# EAGLE library part BMI085 (library BMI085)
High-performance 6-axis IMU designed for Augmented/Virtual Reality applications Check availability <https://pricing.snapeda.com/parts/BMI085/Bosch%20Sensortec/view-part?ref=eda>
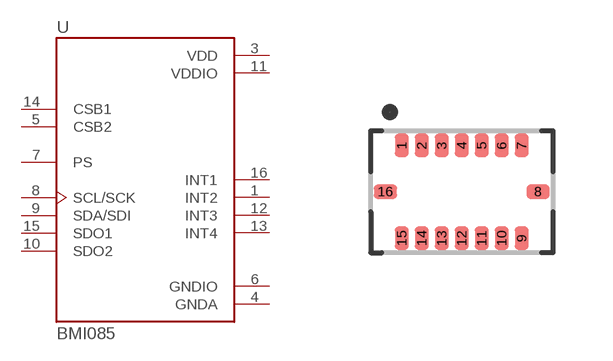
[diagram p0: symbol with the pads of PQFN50P450X300X100-16N; footprint PQFN50P450X300X100-16N]

Designator prefix U

## BMI085 (Availability: In Stock; Description: Accelerometer, Gyroscope, 6 Axis Sensor I²C, SPI Output; MF: Bosch Sensortec; MP: BMI085; Package: VFLGA-16 Bosch Tools; Price: None; Purchase-URL: https://pricing.snapeda.com/search/part/BMI085/?ref=eda)  [PQFN50P450X300X100-16N]
1  INT2
3  VDD  pwr
4  GNDA  pwr
5  CSB2  in
6  GNDIO  pwr
7  PS  in
8  SCL/SCK  in
9  SDA/SDI
10  SDO2  out
11  VDDIO  pwr
12  INT3
13  INT4
14  CSB1  in
15  SDO1  out
16  INT1

## Footprint PQFN50P450X300X100-16N (pad centres in mm)
smd 0.35 x 0.58: 1 -1.5,1.16; 2 -1,1.16; 3 -0.5,1.16; 4 0,1.16; 5 0.5,1.16; 6 1,1.16; 7 1.5,1.16; 9 1.5,-1.16; 10 1,-1.16; 11 0.5,-1.16; 12 0,-1.16; 13 -0.5,-1.16; 14 -1,-1.16; 15 -1.5,-1.16
smd 0.58 x 0.35: 8 1.91,0; 16 -1.91,0